# Altium schematic symbol library IXYS.SchLib: 1 symbol
Pins are listed as number, name and electrical type; pins without a type are passive.

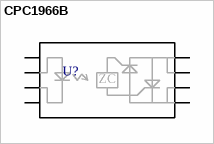
[diagram p0: symbol CPC1966B]

## CPC1966B
designator U?, comment SSR, Zero-crossing, SO8, 3A, 250V  (value not drawn)
Manufacturer: IXYS; Part Number: CPC1966B; Price 1: 3.66; Price 100: 2.75; Price 1000: 2.13
footprint 8-Pin_Power_SOIC
pins: 1 NC, 2 +LED, 3 -LED, 4 NC, 5 AC1, 6 AC1, 7 AC2, 8 AC2
text: ZC